# EAGLE library part MSP430G2553_PW_28 (library TexasInstruments)
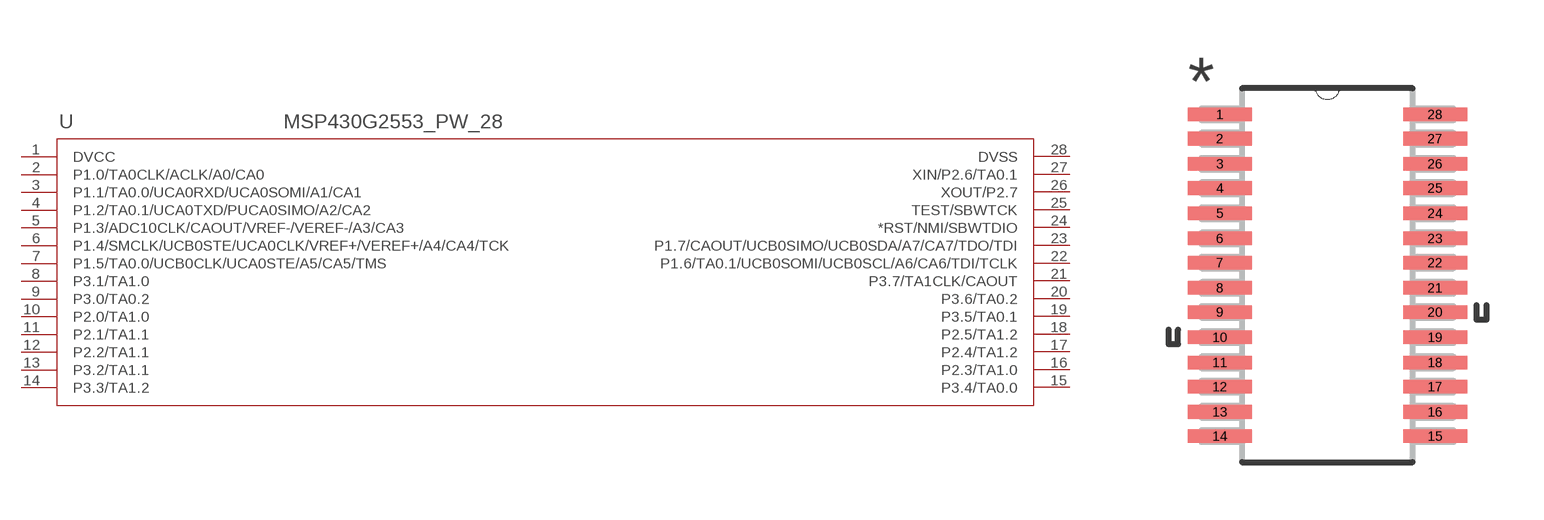
[diagram p1: symbol with the pads of PW28; footprint PW28]

Designator prefix U

## MSP430G2553_PW_28 (DATASHEETURL: http://www.ti.com/lit/gpn/MSP430G2553; DESCRIPTION: MSP430G2x53, MSP430G2x13 Mixed Signal Microcontroller; FAMILY_NAME: Value Line; GENERIC_PART_NUMBER: MSP430G2553; INDUSTRY_STD_PKG_TYPE: TSSOP; MANUFACTURER: Texas Instruments; MANUFACTURER_PART_NUMBER: msp430g2553_pw_28; PACKAGE_DESIGNATOR: PW; PIN_COUNT: 28; VENDOR: Texas Instruments)  [PW28]
1  DVCC  pwr
2  P1.0/TA0CLK/ACLK/A0/CA0
3  P1.1/TA0.0/UCA0RXD/UCA0SOMI/A1/CA1
4  P1.2/TA0.1/UCA0TXD/PUCA0SIMO/A2/CA2
5  P1.3/ADC10CLK/CAOUT/VREF-/VEREF-/A3/CA3
6  P1.4/SMCLK/UCB0STE/UCA0CLK/VREF+/VEREF+/A4/CA4/TCK
7  P1.5/TA0.0/UCB0CLK/UCA0STE/A5/CA5/TMS
8  P3.1/TA1.0
9  P3.0/TA0.2
10  P2.0/TA1.0
11  P2.1/TA1.1
12  P2.2/TA1.1
13  P3.2/TA1.1
14  P3.3/TA1.2
15  P3.4/TA0.0
16  P2.3/TA1.0
17  P2.4/TA1.2
18  P2.5/TA1.2
19  P3.5/TA0.1
20  P3.6/TA0.2
21  P3.7/TA1CLK/CAOUT
22  P1.6/TA0.1/UCB0SOMI/UCB0SCL/A6/CA6/TDI/TCLK
23  P1.7/CAOUT/UCB0SIMO/UCB0SDA/A7/CA7/TDO/TDI
24  *RST/NMI/SBWTDIO
25  TEST/SBWTCK
26  XOUT/P2.7
27  XIN/P2.6/TA0.1
28  DVSS  pwr

## Footprint PW28 (pad centres in mm)
smd 1.676 x 0.356: 1 -2.819,4.216; 2 -2.819,3.581; 3 -2.819,2.921; 4 -2.819,2.286; 5 -2.819,1.626; 6 -2.819,0.965; 7 -2.819,0.33; 8 -2.819,-0.33; 9 -2.819,-0.965; 10 -2.819,-1.626; 11 -2.819,-2.286; 12 -2.819,-2.921; 13 -2.819,-3.581; 14 -2.819,-4.216; 15 2.819,-4.216; 16 2.819,-3.581; 17 2.819,-2.921; 18 2.819,-2.286; 19 2.819,-1.626; 20 2.819,-0.965; 21 2.819,-0.33; 22 2.819,0.33; 23 2.819,0.965; 24 2.819,1.626; 25 2.819,2.286; 26 2.819,2.921; 27 2.819,3.581; 28 2.819,4.216